# Altium footprint library 曾宪阳PCB库.PcbLib: 142 footprints (part 8 of 9)
Each footprint in its own frame and in the unit in brackets; x right, y up, seen from the top. Pads: shape width x height; smd on the part's side, far side on the other; paste and mask are expansions set on the pad; w line width, h text height; cw(c..) or ccw(c..) is an arc to the next point about the centre after c.
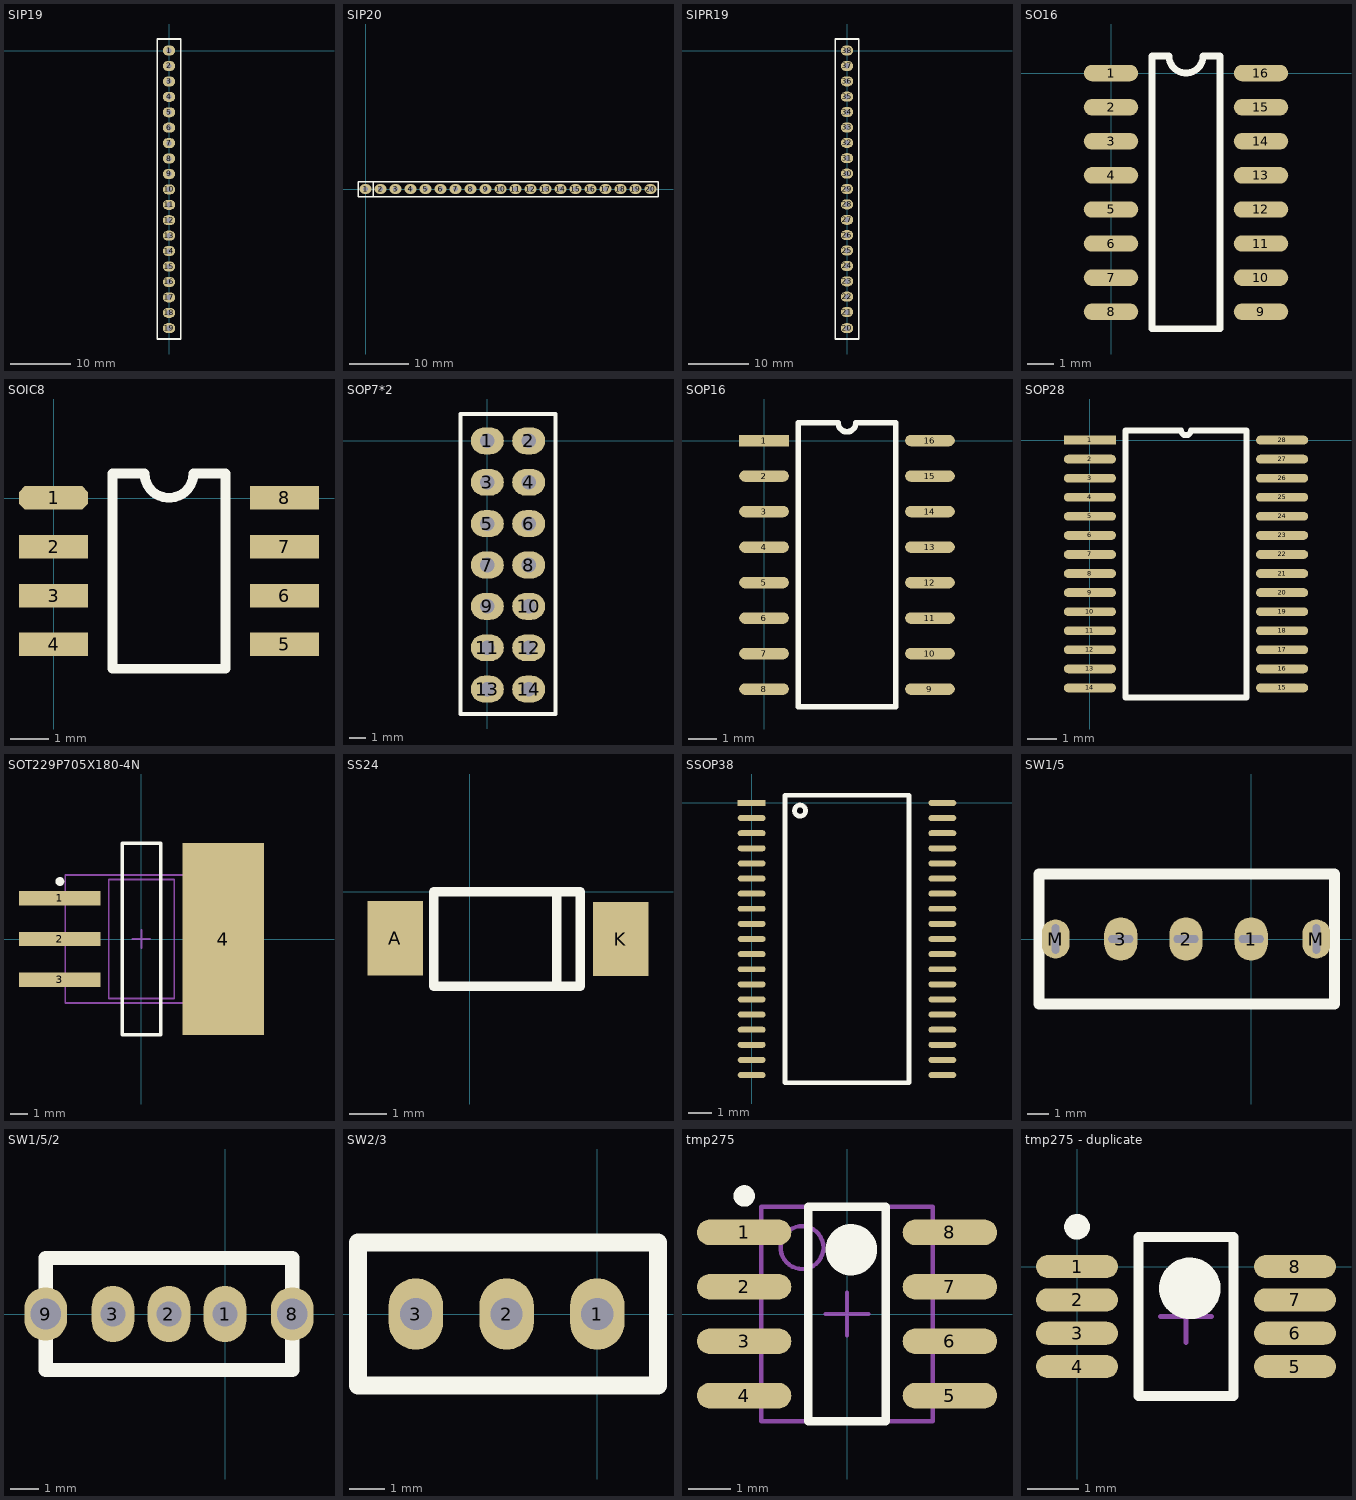
[diagram p7: the footprints below, top view; thin cyan lines are the x and y axes]

## SIP19 [mil]
pads (19):
  oval 80x65 hole 35.43: 1(0,0) 2(0,-100) 3(0,-200) 4(0,-300) 5(0,-400) 6(0,-500) 7(0,-600) 8(0,-700) 9(0,-800) 10(0,-900) 11(0,-1000) 12(0,-1100) 13(0,-1200) 14(0,-1300) 15(0,-1400) 16(0,-1500) 17(0,-1600) 18(0,-1700) 19(0,-1800)
Top Overlay:
  lines w10: -75,-1870 75,-1870 75,75 -25,75 -75,75 -75,-1870

## SIP20 [mil]
pads (20):
  oval 80x65 hole 35.43: 1(0,0) 2(100,0) 3(200,0) 4(300,0) 5(400,0) 6(500,0) 7(600,0) 8(700,0) 9(800,0) 10(900,0) 11(1000,0) 12(1100,0) 13(1200,0) 14(1300,0) 15(1400,0) 16(1500,0) 17(1600,0) 18(1700,0) 19(1800,0) 20(1900,0)
Top Overlay:
  lines w10: 50,-50 50,50 ; -50,-50 1950,-50 1950,50 -50,50 -50,-50

## SIPR19 [mil]
pads (19):
  oval 80x65 hole 35.43: 20(0,-1805) 21(0,-1700) 22(0,-1600) 23(0,-1500) 24(0,-1400) 25(0,-1300) 26(0,-1200) 27(0,-1100) 28(0,-1000) 29(0,-900) 30(0,-800) 31(0,-700) 32(0,-600) 33(0,-500) 34(0,-400) 35(0,-300) 36(0,-200) 37(0,-100) 38(0,0)
Top Overlay:
  lines w10: -75,-1875 75,-1875 75,75 -75,75 -75,-1875

## SO16 [mil]
pads (16):
  oval 80x24 smd: 1(0,0) 2(0,-50) 3(0,-100) 4(0,-150) 5(0,-200) 6(0,-250) 7(0,-300) 8(0,-350) 9(220,-350) 10(220,-300) 11(220,-250) 12(220,-200) 13(220,-150) 14(220,-100) 15(220,-50) 16(220,0)
Top Overlay:
  lines w10: 60,-375 60,25 85,25 ccw(c110,25) 135,25 160,25 160,-375 60,-375

## SOIC8 [mm]
pads (8):
  oct 1.8x0.61 smd: 1(0,0.006)
  rect 1.8x0.61 smd: 2(0,-1.264) 3(0,-2.534) 4(0,-3.804) 5(6,-3.804) 6(6,-2.534) 7(6,-1.264) 8(6,0.006)
Top Overlay:
  lines w0.254: 2.363,0.641 1.53,0.641 1.53,-4.439 4.47,-4.439 4.47,0.641 3.637,0.641 ; 2.365,0.641 ccw(c3,0.641) 3.635,0.641

## SOP7*2 [mil]
pads (14):
  oval 80x65 hole 35.43: 1(0,0) 2(100,0) 3(0,-100) 4(100,-100) 5(0,-200) 6(100,-200) 7(0,-300) 8(100,-300) 9(0,-400) 10(100,-400) 11(0,-500) 12(100,-500) 13(0,-600) 14(100,-600)
Top Overlay:
  lines w10: -65,-660 -45,-660 165,-660 165,65 -65,65 -65,-660

## SOP16 [mm]
pads (16):
  rect 1.778x0.405 smd: 1(0,0)
  oval 1.778x0.405 smd: 2(0,-1.27) 3(0,-2.54) 4(0,-3.81) 5(0,-5.08) 6(0,-6.35) 7(0,-7.62) 8(0,-8.89) 9(5.935,-8.89) 10(5.935,-7.62) 11(5.935,-6.35) 12(5.935,-5.08) 13(5.935,-3.81) 14(5.935,-2.54) 15(5.935,-1.27) 16(5.935,0)
Top Overlay:
  lines w0.2: 1.22,-9.525 1.22,0.635 2.65,0.635 ccw(c2.967,0.635) 3.285,0.635 4.715,0.635 4.715,-9.525 1.22,-9.525

## SOP28 [mm]
pads (28):
  rect 1.778x0.3 smd: 1(0,0)
  oval 1.778x0.3 smd: 2(0,-0.65) 3(0,-1.3) 4(0,-1.95) 5(0,-2.6) 6(0,-3.25) 7(0,-3.9) 8(0,-4.55) 9(0,-5.2) 10(0,-5.85) 11(0,-6.5) 12(0,-7.15) 13(0,-7.8) 14(0,-8.45) 15(6.55,-8.45) 16(6.55,-7.8) 17(6.55,-7.15) 18(6.55,-6.5) 19(6.55,-5.85) 20(6.55,-5.2) 21(6.55,-4.55) 22(6.55,-3.9) 23(6.55,-3.25) 24(6.55,-2.6) 25(6.55,-1.95) 26(6.55,-1.3) 27(6.55,-0.65) 28(6.55,0)
Top Overlay:
  lines w0.2: 1.21,-8.775 1.21,0.325 3.113,0.325 ccw(c3.275,0.325) 3.437,0.325 5.34,0.325 5.34,-8.775 1.21,-8.775

## SOT229P705X180-4N [mm] "SOT223, 4-Leads, Body 6.7x7.2mm (max), Pitch 2.29mm, IPC Medium Density"
height 1.8
pads (4):
  rect 4.6x0.8 smd: 1(-4.6,2.29) 2(-4.6,0) 3(-4.6,-2.29)
  rect 4.6x10.8 smd: 4(4.6,0)
Top Overlay:
  circle w0.25: c-4.6,3.24 r0.125
  lines w0.2: -1.075,-5.4 -1.075,5.4 1.075,5.4 1.075,-5.4 -1.075,-5.4
Mechanical 13:
  lines w0.1: -1.85,-3.35 -1.85,3.35 1.85,3.35 1.85,-3.35 -1.85,-3.35
Mechanical 15:
  lines w0.1: -0.5,0 0.5,0 ; 0,-0.5 0,0.5 ; -4.3,-3.6 4.3,-3.6 4.3,3.6 -4.3,3.6 -4.3,-3.6
3D body: height 1.8, standoff 0.2, extent -1.85,-3.35 1.85,3.35

## SS24 [mm]
height 1.35
pads (2):
  rect 1.5x2 smd: A(-2,-1.245) K(4.064,-1.27)
Top Overlay:
  lines w0.254: 2.921,-2.54 2.337,-2.54 ; 2.972,-2.54 2.972,0 2.337,0 ; 2.337,-2.54 0,-2.54 -0.965,-2.54 -0.965,0 0,0 2.337,0 ; 2.337,-2.54 2.337,0

## SSOP38 [mm]
pads (38):
  rect 1.2x0.254 smd: 1(0,0)
  oval 1.2x0.254 smd: 2(0,-0.65) 3(0,-1.3) 4(0,-1.95) 5(0,-2.6) 6(0,-3.25) 7(0,-3.9) 8(0,-4.55) 9(0,-5.2) 10(0,-5.85) 11(0,-6.5) 12(0,-7.15) 13(0,-7.8) 14(0,-8.45) 15(0,-9.1) 16(0,-9.75) 17(0,-10.4) 18(0,-11.05) 19(0,-11.7) 20(8.2,-11.7) 21(8.2,-11.05) 22(8.2,-10.4) 23(8.2,-9.75) 24(8.2,-9.1) 25(8.2,-8.45) 26(8.2,-7.8) 27(8.2,-7.15) 28(8.2,-6.5) 29(8.2,-5.85) 30(8.2,-5.2) 31(8.2,-4.55) 32(8.2,-3.9) 33(8.2,-3.25) 34(8.2,-2.6) 35(8.2,-1.95) 36(8.2,-1.3) 37(8.2,-0.65) 38(8.2,0)
Top Overlay:
  circle w0.203: c2.083,-0.33 r0.24
  lines w0.2: 1.43,0.32 6.765,0.325 6.765,-12.025 1.435,-12.025 1.435,0.325

## SW1/5 [mm] "SPDT Subminiature Toggle Switch, Right Angle Mounting, Vertical Actuation"
height 1.75
pads (5):
  oval 1.524x2 hole 0.35 slot 1.15 at 0 deg: 1(0,0) 2(-3,0) 3(-6,0)
  oval 1.27x1.8 hole 0.35 slot 1.35 at 90 deg: M(-9,0) M(3,0)
Top Overlay:
  lines w0.508: -9.754,-3 -9.754,3 3.835,3 3.835,-3 -9.754,-3

## SW1/5/2 [mm]
pads (5):
  oval 1.524x2 hole 0.9: 1(0,0) 2(-2,0) 3(-4,0)
  oval 1.524x1.905 hole 1.1: 8(2.4,0) 9(-6.4,0)
Top Overlay:
  lines w0.508: -6.4,-2 2.4,-2 2.4,2 -6.4,2 -6.4,-2

## SW2/3 [mm]
pads (3):
  oval 1.524x2 hole 0.9: 1(0,0) 2(-2.54,0) 3(-5.08,0)
Top Overlay:
  lines w0.508: -6.7,-2 1.7,-2 1.7,2 -6.7,2 -6.7,-2

## tmp275 [mm] "SOIC, 8-Leads, Body 5.0x4.0mm (max), Pitch 1.27mm, IPC Medium Density"
height 1.75
pads (8):
  oval 2.2x0.6 smd: 1(-2.4,1.905) 2(-2.4,0.635) 3(-2.4,-0.635) 4(-2.4,-1.905) 5(2.4,-1.905) 6(2.4,-0.635) 7(2.4,0.635) 8(2.4,1.905)
Top Overlay:
  circle w0.25: c-2.4,2.755 r0.125
  circle w0.6: c0.1,1.5 r0.3
  lines w0.2: -0.9,-2.5 -0.9,2.5 0.9,2.5 0.9,-2.5 -0.9,-2.5
Mechanical 13:
  circle w0.1: c-1.05,1.55 r0.5
  lines w0.1: -2,-2.5 -2,2.5 2,2.5 2,-2.5 -2,-2.5
Mechanical 15:
  lines w0.1: -0.5,0 0.5,0 ; 0,-0.5 0,0.5
3D body: height 1.75, standoff 0.1, extent -2,-2.5 2,2.5

## tmp275 - duplicate [mm] "TSOP, 8-Leads, Body 3.1x3.1mm (max), Pitch 0.65mm, IPC Medium Density"
height 1.1
pads (8):
  oval 1.6x0.45 smd: 1(0,0) 2(0,-0.65) 3(0,-1.3) 4(0,-1.95) 5(4.25,-1.95) 6(4.25,-1.3) 7(4.25,-0.65) 8(4.25,0)
Top Overlay:
  circle w0.25: c0,0.775 r0.125
  circle w0.6: c2.2,-0.425 r0.3
  lines w0.2: 1.2,-2.525 1.2,0.575 3.05,0.575 3.05,-2.525 1.2,-2.525
Mechanical 15:
  lines w0.1: 1.625,-0.975 2.625,-0.975 ; 2.125,-1.475 2.125,-0.475